# Altium footprint library Cap_Cornell_Dubilier_SK010M050ST_eec_0.PcbLib: 1 footprints
Each footprint in its own frame and in the unit in brackets; x right, y up, seen from the top. Pads: shape width x height; smd on the part's side, far side on the other; paste and mask are expansions set on the pad; w line width, h text height; cw(c..) or ccw(c..) is an arc to the next point about the centre after c.
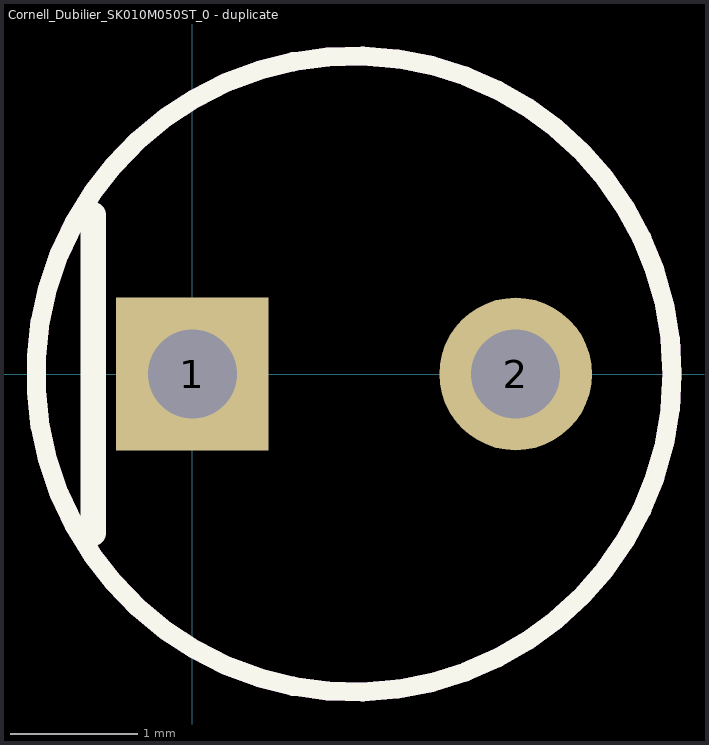
[diagram p0: the footprint, top view; thin cyan lines are the x and y axes]

## Cornell_Dubilier_SK010M050ST_0 - duplicate [mm]
pads (2):
  rect 1.2x1.2 hole 0.7 paste-1000 mask+0: 1(0,0)
  round 1.2 hole 0.7 paste-1000 mask+0: 2(2.54,0)
Top Overlay:
  circle w0.15: c1.27,0 r2.5
  lines w0.2: -0.78,-1.25 -0.78,1.25
Mechanical 12:
  circle w0.15: c1.27,0 r2.5
3D body "Cap_Cornell_Dubilier_SK010M050ST_eec.STEP": height 0.25, standoff 0
3D body "CAP_RAD_D5x11_POL_BK.stp": height 12.5, standoff -2.5, extent -1.436,-2.706 4.064,2.794
3D body: height 1.27, standoff 0, extent 5.715,1.27 5.715,1.27